# Altium schematic symbol library Velotour_2022.SCHLIB: 34 symbols
Pins are listed as number, name and electrical type; pins without a type are passive.

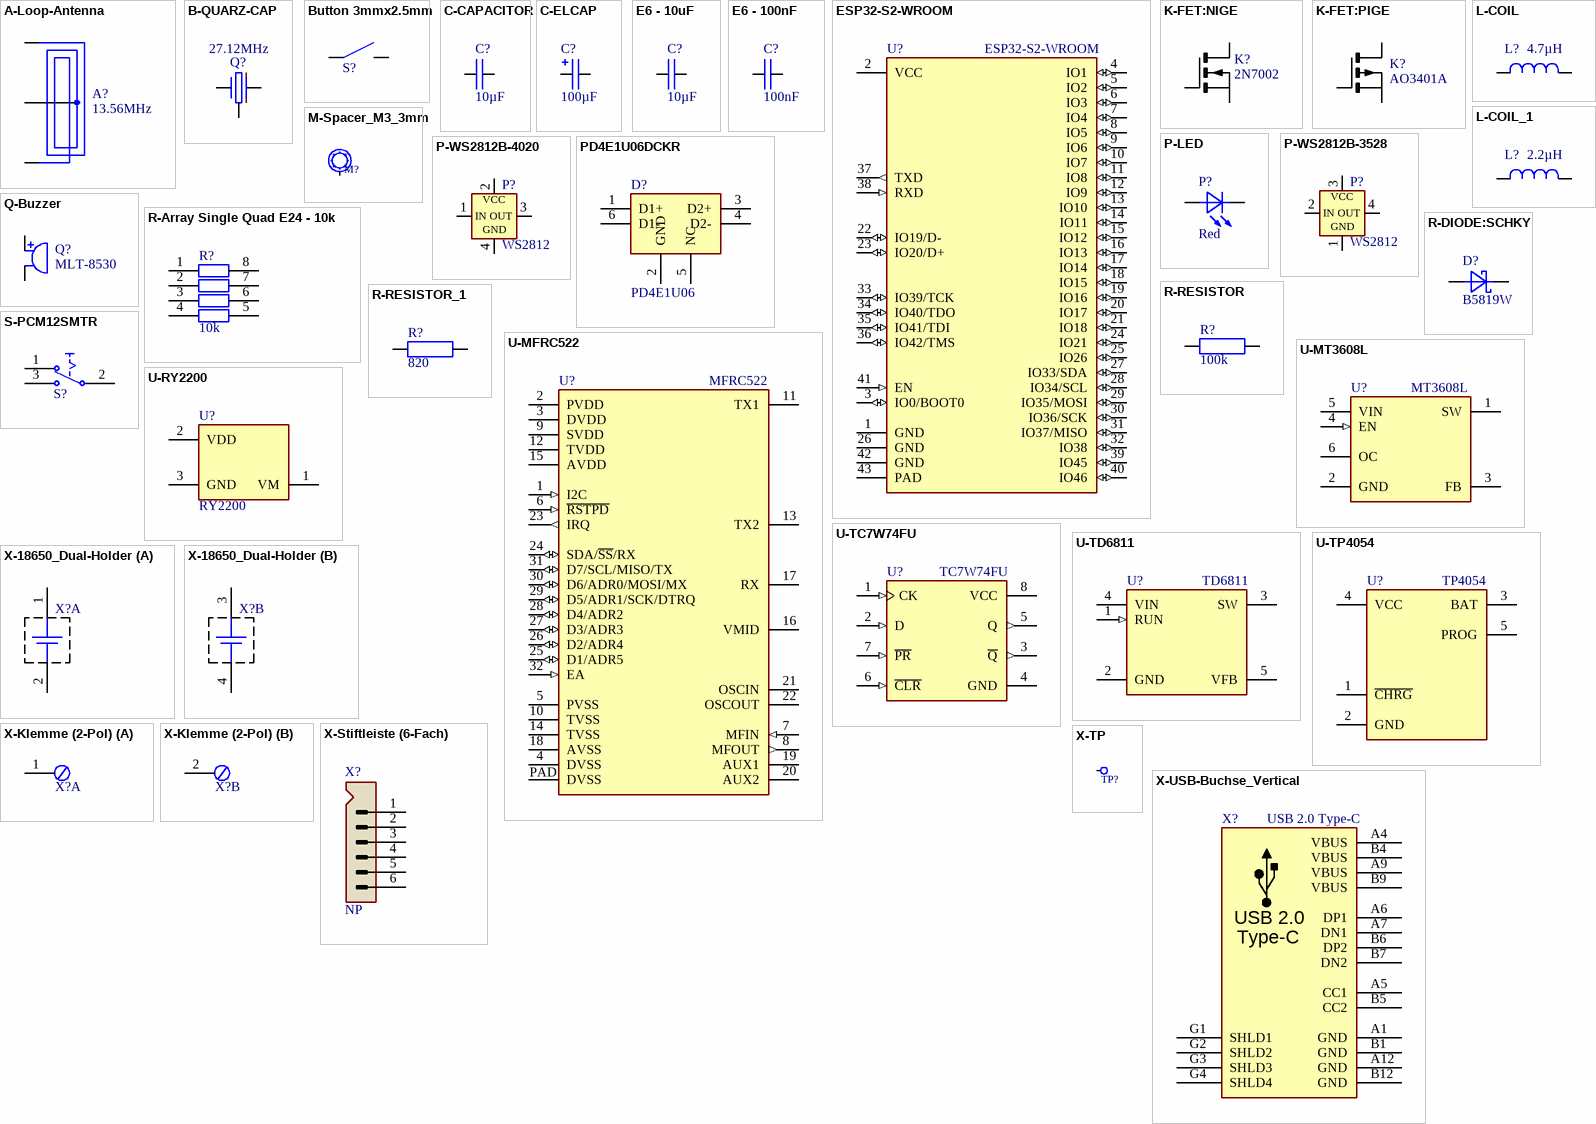
[diagram p0: symbols A-Loop-Antenna to X-USB-Buchse_Vertical]

## A-Loop-Antenna
designator A?, comment 13.56MHz
PCB Loop-Antenna; Component Description: PCB Loop-Antenna; Component Value: 13.56MHz; Unit Price: 0.00
footprint SMD Loop-Antenna 13.56MHz
pins: 1 A, 2 B, 3 M

## B-QUARZ-CAP
designator Q?, comment 27.12MHz
Component Description: Crystal; Digikey: 50-ECS-271.2-18-33-JGN-TR3CT-ND; Farnell: 3649643; Mouser: 520-271.2-1833JGNTR3; ComponentLink1Description: Datasheet; ComponentLink1URL: https://datasheet.lcsc.com/lcsc/2103291134_Yangxing-Tech-X32252712MMB4SI_C29975.pdf; Component Value: 27.12Mhz; JLC-Parts: C29975; Unit Price: 0.08
footprint SMD Crystal 3.2X2.5X0.8 (SMD_LED_RED)
pins: 1, 2, 3
2 alternate drawings of the same symbol

## Button 3mmx2.5mm
designator S?, comment SMD-Button  (value not drawn)
Button SPST; Component Value: TS-1187A-B-A-B; Component Description: Tactile Switch; Digikey: CKN12221-1-ND; ComponentLink1Description: Datasheet; ComponentLink1URL: https://datasheet.lcsc.com/lcsc/2002271431_XKB-Connectivity-TS-1187A-B-A-B_C318884.pdf; Farnell: 3780596; JLC-Parts: C318884; Mouser: 611-PTS526SK15SMR2L; Unit Price: 0.02
footprint SMD Button 5.2x5.2
pins: 1, 2

## C-CAPACITOR
designator C?, comment 10µF
CAP-MK; Component Description: Multilayer Ceramic Capacitors; Component Value: 10µF 50V; Digikey: 445-7886-1-ND; Farnell: 2211092; Mouser: 810-CGA5L3X5R1H106K; JLC-Parts: C13585; Unit Price: 0.27
footprint SMD Keramikkondensator 1206
pins: 1, 2
1 alternate drawing of the same symbol

## C-ELCAP
designator C?, comment 100µF
CAP-Elko; Component Description: Tantalum Capacitor; Component Value: 100µF 6.3V; Digikey: 478-1677-1-ND; Farnell: 1135048; Mouser: 581-TAJB107K006R; JLC-Parts: C16133; Unit Price: 0.08
footprint SMD Tantalkondensator 1210 +
pins: M -, P +
2 alternate drawings of the same symbol

## E6 - 10uF
designator C?, comment 10µF
SMD Ceramic Capacitor E6; Component Value: 10µF 10V; Component Description: Multilayer Ceramic Capacitors MLCC; ComponentLink1Description: Datasheet; ComponentLink1URL: https://datasheet.lcsc.com/lcsc/1810191219_Samsung-Electro-Mechanics-CL10A106KP8NNNC_C19702.pdf; Digikey: 587-3258-1-ND; Farnell: 2113070; JLC-Parts: C19702; Mouser: 963-LMK107BBJ106MALT; Unit Price: 0.01
footprint SMD Keramikkondensator 1206
pins: 1, 2
1 alternate drawing of the same symbol

## E6 - 100nF
designator C?, comment 100nF
SMD Ceramic Capacitor E6; Component Value: 100nF 50V; Component Description: Multilayer Ceramic Capacitors MLCC; ComponentLink1Description: Datasheet; ComponentLink1URL: https://datasheet.lcsc.com/lcsc/1809301912_YAGEO-CC0603KRX7R9BB104_C14663.pdf; Digikey: 445-6899-1-ND; Farnell: 2210822; JLC-Parts: C14663; Mouser: 810-CGA2B3X7R1H104K; Unit Price: 0.01
footprint SMD Keramikkondensator 0603
pins: 1, 2
1 alternate drawing of the same symbol

## ESP32-S2-WROOM
designator U?
WiFi 802.11b/g/n Transceiver Module 2.4GHz Antenna, I-PEX Surface Mount; Component Description: Xtensa single-core 32-bit LX7 MCU; ComponentLink1Description: Datasheet; ComponentLink1URL: https://www.espressif.com/sites/default/files/documentation/esp32-s2-wroom_esp32-s2-wroom-i_datasheet_en.pdf; Digikey: 1965-ESP32-S2-WROOMTR-ND; Component Value: ESP32-S2-WROOM; JLC-Parts: C967026; Mouser: 356-ESP32S2WRMI320UH; Unit Price: 2.54
footprint SMD ESP32-S2-WROOM
pins: 1 GND, 2 VCC, 3 IO0/BOOT0 (io), 4 IO1 (io), 5 IO2 (io), 6 IO3 (io), 7 IO4 (io), 8 IO5 (io), 9 IO6 (io), 10 IO7 (io), 11 IO8 (io), 12 IO9 (io), 13 IO10 (io), 14 IO11 (io), 15 IO12 (io), 16 IO13 (io), 17 IO14 (io), 18 IO15 (io), 19 IO16 (io), 20 IO17 (io), 21 IO18 (io), 22 IO19/D- (io), 23 IO20/D+ (io), 24 IO21 (io), 25 IO26 (io), 26 GND, 27 IO33/SDA (io), 28 IO34/SCL (io), 29 IO35/MOSI (io), 30 IO36/SCK (io), 31 IO37/MISO (io), 32 IO38 (io), 33 IO39/TCK (io), 34 IO40/TDO (io), 35 IO41/TDI (io), 36 IO42/TMS (io), 37 TXD (out), 38 RXD (in), 39 IO45 (io), 40 IO46 (io), 41 EN (in), 42 GND, 43 PAD

## K-FET:NIGE
designator K?, comment 2N7002
MOSFET N-Channel; Digikey: 2N7002NCT-ND; Farnell: 1713823; Mouser: 512-2N7002; ComponentLink1Description: Datasheet; ComponentLink1URL: https://datasheet.lcsc.com/lcsc/1810151612_Jiangsu-Changjing-Electronics-Technology-Co---Ltd--2N7002_C8545.pdf; Component Description: MOSFET N-Channel; Component Value: 2N7002; JLC-Parts: C8545; Unit Price: 0.02
footprint SMD MOSFET SOT-23
pins: D, G, S
2 alternate drawings of the same symbol

## K-FET:PIGE
designator K?, comment AO3401A
MOSFET P-Channel; Digikey: 785-1001-1-ND; Component Description: MOSFET P-Channel; ComponentLink1Description: Datasheet; ComponentLink1URL: https://datasheet.lcsc.com/lcsc/1810171817_Alpha---Omega-Semicon-AO3401A_C15127.pdf; Component Value: AO3401A; JLC-Parts: C15127; Unit Price: 0.14
footprint SMD MOSFET SOT-23
pins: D, G, S
2 alternate drawings of the same symbol

## L-COIL
designator L?, comment 4.7µH
Shielded Power Inductor; Component Description: Molded Power Inductor; Component Value: LQH32PN4R7NN0L (4.7µH, 1.0A); Farnell: 2470296; Mouser: 81-LQH32PN4R7NN0L; Digikey: 490-5338-1-ND; JLC-Parts: C98021; Unit Price: 0.12
footprint SMD Inductor 3.2x2.5x1.7
pins: 1, 2
2 alternate drawings of the same symbol

## L-COIL_1
designator L?, comment 2.2µH
Multilayer Chip Inductor; Farnell: 2871431; Mouser: 81-DFE201210U-2R2MP2; Digikey: 490-16592-1-ND; JLC-Parts: C1043; Component Description: Multilayer Chip Inductor; Component Value: 2.2µH; Unit Price: 0.01
footprint SMD Inductor 0805
pins: 1, 2
2 alternate drawings of the same symbol

## M-Spacer_M3_3mm
designator M?, comment SMTSO-M3-3ET  (value not drawn)  (no BOM)
Solderable Standoff Nut; Component Value: M3 3mm; Mouser: 153-SMTSO-M3-3ET; Component Description: Solderable Standoff Nut; Unit Price: 0.05; JLC-Parts: C2915308; ComponentLink1Description: Datasheet; ComponentLink1URL: https://datasheet.lcsc.com/lcsc/2112061830_Sinhoo-SMTSO3030CTJ_C2915308.pdf
footprint SMD Solder-Nut (M3 3mm)
pins: 1

## P-LED
designator P?, comment Red
LED (als Lampe E / alt H); Component Description: Low Power LED; Component Value: Red (5mA, 2.0V); Digikey: 350-2029-1-ND; Farnell: 1465988; Mouser: 645-598-8010-107F; ComponentLink1Description: Datasheet; ComponentLink1URL: https://datasheet.lcsc.com/szlcsc/Hubei-KENTO-Elec-KT-0603R_C2286.pdf; JLC-Parts: C2286; Unit Price: 0.34
footprint SMD LED 0603 (SMD_LED_RED)
pins: A, K

## P-WS2812B-3528
designator P?, comment WS2812
Smart RGB-LED; aliExpress: 1005003999865721; Component Value: XL-3528RGBW-WS2812B; JLC-Parts: C2890364; ComponentLink1Description: Datasheet; ComponentLink1URL: https://datasheet.lcsc.com/lcsc/2108271830_XINGLIGHT-XL-3528RGBW-WS2812B_C2890364.pdf; Component Description: Smart RGB-LED; Unit Price: 0.06
footprint SMD LED WS2812B-3528 (SMD_LED_RED)
pins: 1 GND (power), 2 IN (power), 3 VCC (power), 4 OUT (power)

## P-WS2812B-4020
designator P?, comment WS2812
Smart RGB-LED; aliExpress: 33031289356; Component Value: WS2812B-4020; JLC-Parts: C965557; ComponentLink1Description: Datasheet; ComponentLink1URL: https://datasheet.lcsc.com/lcsc/2012110135_Worldsemi-WS2812B-4020_C965557.pdf; Component Description: Smart RGB-LED; Unit Price: 0.12
footprint SMD LED WS2812B-4020 (SMD_LED_RED)
pins: 1 IN (power), 2 VCC (power), 3 OUT (power), 4 GND (power)

## PD4E1U06DCKR
designator D?, comment PD4E1U06
Unidirectional 3A (8/20us) 15V (Typ) 6.5V 5.5V (Max) SOT-363 ESD Protection Devices ROHS; Component Description: ESD Suppressor; ComponentLink1Description: Datasheet; ComponentLink1URL: https://datasheet.lcsc.com/lcsc/1810172210_Texas-Instruments-TPD4E1U06DCKR_C194628.pdf; Component Value: PD4E1U06; Digikey: 296-39347-1-ND; Farnell: 3116516; JLC-Parts: C194628; Mouser: 595-TPD4E1U06DCKR; Unit Price: 0.12
footprint SMD IC SOT-363 (SC-70-6)
pins: 1 D1+, 2 GND, 3 D2+, 4 D2-, 5 NC, 6 D1-

## Q-Buzzer
designator Q?, comment MLT-8530
Electromagnetic Buzzer; Digikey: 458-1052-ND; Farnell: 1801084; Mouser: 539-AST200Q; JLC-Parts: C94599; ComponentLink1Description: Datasheet; ComponentLink1URL: https://datasheet.lcsc.com/lcsc/1811151451_Jiangsu-Huaneng-Elec-MLT-8530_C94599.pdf; Component Description: Electromagnetic Buzzer; Component Value: MLT-8530; Unit Price: 0.27
footprint SMD Buzzer (MLT-8530) (SMD_LED_RED)
pins: 1 P (power), 2 M (power)

## R-Array Single Quad E24 - 10k
designator R?, comment 10k
Isolated Resistor Array; Component Value: 10k (4x, 50V, 62.5mW, 5%); ComponentLink1Description: Datasheet; ComponentLink1URL: https://datasheet.lcsc.com/lcsc/1810191515_UNI-ROYAL-Uniroyal-Elec-4D03WGJ0103T5E_C29718.pdf; Digikey: Y4103CT-ND; Farnell: 2060167; JLC-Parts: C29718; Mouser: 667-EXB-V8V103JV; Unit Price: 0.01; Component Description: Isolated Resistor Array
footprint SMD Widerstand Array 4-Fach 0603
pins: 1, 2, 3, 4, 5, 6, 7, 8

## R-DIODE:SCHKY
designator D?, comment B5819W
S-DIODE; Component Description: Low Voltage Schottky-Diode; Mouser: 833-B5819W-TP; Farnell: 2306459; Digikey: B5819W-TPMSCT-ND; JLC-Parts: C8598; Component Value: B5819W; Unit Price: 0.03
footprint SMD Diode SOD-123 (SM LED; 2 Flat Leads)
pins: A, K

## R-RESISTOR
designator R?, comment 100k
RES (E=Heizwiderstand B=Messwandler); Component Description: Thick Film Chip Resistor; Component Value: 100k (75V, 100mW, 1%); Digikey: P100KHCT-ND; Farnell: 2303232; Mouser: 667-ERJ-3EKF1003V; JLC-Parts: C25803; Unit Price: 0.01
footprint SMD Widerstand 0603
pins: 1, 2
1 alternate drawing of the same symbol

## R-RESISTOR_1
designator R?, comment 820
SMD-Widerstand 1/4W; Component Description: Dickschicht Chipwiderstand; Component Value: 820 (75V, 100mW, 1%); Digikey: P820HCT-ND; Farnell: 2303136; Mouser: 667-ERJ-3EKF8200V; JLC-Parts: C23253; Unit Price: 0.01
footprint SMD Widerstand 0603
pins: 1, 2
1 alternate drawing of the same symbol

## S-PCM12SMTR
designator S?, comment SS075Q102F035V2A  (value not drawn)
Micro Detector Switch; aliExpress: 32939882024; Component Value: SS075Q102F035V2A (Right Angled); Digikey: EG4929-ND; Mouser: 612-SS075Q102F035V2A; Farnell: 2844089; ComponentLink1Description: Datasheet; Component Description: Micro Detector Switch; Unit Price: 0.18
footprint THT Micro Switch (SS075Q102F035V2A)
pins: 1 NC1, 2 COMMON1, 3 NO1

## U-MFRC522
designator U?, comment MFRC522
Standard performance MIFARE and NTAG frontend; ComponentLink1Description: Datasheet; ComponentLink1URL: https://media.digikey.com/pdf/Data%20Sheets/NXP%20PDFs/MFRC522.pdf; Digikey: 568-8603-ND; Component Value: MFRC522; Farnell: 1902838; JLC-Parts: C2760772; Mouser: 771-MFRC52202HN1151; Unit Price: 0.88; Component Description: Standard performance MIFARE and NTAG frontend
footprint SMD IC QFN-32 (QFN, 32-Leads, Body 5x5mm, Pitch 0.5mm, IPC Medium Density)
pins: 1 I2C (in), 2 PVDD (power), 3 DVDD (power), 4 DVSS (power), 5 PVSS (power), 6 ~{RSTPD} (in), 7 MFIN (in), 8 MFOUT (out), 9 SVDD (power), 10 TVSS (power), 11 TX1, 12 TVDD (power), 13 TX2, 14 TVSS (power), 15 AVDD (power), 16 VMID, 17 RX, 18 AVSS (power), 19 AUX1, 20 AUX2, 21 OSCIN, 22 OSCOUT, 23 IRQ (out), 24 SDA/~{SS}/RX (io), 25 D1/ADR5 (io), 26 D2/ADR4 (io), 27 D3/ADR3 (io), 28 D4/ADR2 (io), 29 D5/ADR1/SCK/DTRQ (io), 30 D6/ADR0/MOSI/MX (io), 31 D7/SCL/MISO/TX (io), 32 EA (in), PAD DVSS

## U-MT3608L
designator U?, comment MT3608L
1.2MHz 2.5A Current Mode Step-Up Converter; ComponentLink1Description: Datasheet; ComponentLink1URL: https://datasheet.lcsc.com/lcsc/2201121530_XI-AN-Aerosemi-Tech-MT3608L_C2932326.pdf; Component Value: MT3608L; JLC-Parts: C2932326; Unit Price: 0.09; Component Description: 1.2MHz 2.5A Current Mode Step-Up Converter
footprint SMD IC SOT-23-6 (SOT-223/SC-73; 4 Leads; Body 6.7 x 7.3 mm, inc. leads (LxW max))
pins: 1 SW, 2 GND (power), 3 FB, 4 EN (in), 5 VIN (power), 6 OC

## U-RY2200
designator U?, comment RY2200
One Cell Li-ion and Li-poly Battery Protection IC; ComponentLink1Description: Datasheet; ComponentLink1URL: https://datasheet.lcsc.com/lcsc/2108251630_RYCHIP-Semiconductor-Inc--RY2200_C2888102.pdf; Component Value: RY2200; JLC-Parts: C2888102; Unit Price: 0.05; Component Description: One Cell Li-ion and Li-poly Battery Protection IC
footprint SMD IC SOT-23-3
pins: 1 VM (power), 2 VDD (power), 3 GND (power)

## U-TC7W74FU
designator U?, comment TC7W74FU
Low-Power D-Flip-Flop with Preset & Clear; ComponentLink1Description: Datasheet; ComponentLink1URL: https://datasheet.lcsc.com/lcsc/1811081942_TOSHIBA-TC7W74FU-LF_C128631.pdf; Digikey: TC7W74FULFCT-ND; Component Value: TC7W74FU; Farnell: 3872351; JLC-Parts: C128631; Unit Price: 0.52; Component Description: Low-Power D-Flip-Flop with Preset & Clear
footprint SMD IC TSSOP-8 (Shrink Small Outline; 16 Leads; Body Width 4.4 mm; Pitch 0.65 mm)
pins: 1 CK (in), 2 D (in), 3 ~{Q} (out), 4 GND (power), 5 Q (out), 6 ~{CLR} (in), 7 ~{PR} (in), 8 VCC (power)

## U-TD6811
designator U?, comment TD6811
1.5MHz 1.2A Synchronous Step-Down Converter; ComponentLink1Description: Datasheet; ComponentLink1URL: https://datasheet.lcsc.com/lcsc/1811061612_Techcode-Semicon-TD6811_C189486.pdf; Component Value: TD6811; JLC-Parts: C189486; Unit Price: 0.14; Component Description: 1.5MHz 1.2A Synchronous Step-Down Converter
footprint SMD IC SOT-23-5 (SOT-223/SC-73; 4 Leads; Body 6.7 x 7.3 mm, inc. leads (LxW max))
pins: 1 RUN (in), 2 GND (power), 3 SW, 4 VIN (power), 5 VFB

## U-TP4054
designator U?, comment TP4054
Standalone Linear Li-Ion Battery Charger; ComponentLink1Description: Datasheet; ComponentLink1URL: http://images.100y.com.tw/pdf_file/38-TP-TP4054x.pdf; Component Value: TP4054; JLC-Parts: C32574; Unit Price: 0.14; Component Description: Standalone Linear Li-Ion Battery Charger
footprint SMD IC SOT-23-5 (SOT-223/SC-73; 4 Leads; Body 6.7 x 7.3 mm, inc. leads (LxW max))
pins: 1 ~{CHRG} (oc), 2 GND (power), 3 BAT, 4 VCC (power), 5 PROG

## X-18650_Dual-Holder
designator X?, comment 18650 Dual Battery Holder  (value not drawn)
Component Value: 1049P; AliExpress: 4001152338150; Digikey: 36-1049P-ND; Farnell: 2674339; Mouser: 534-1049P; Unit Price: 0.73; ComponentLink1Description: Datasheet; ComponentLink1URL: https://www.keyelco.com/userAssets/file/M65p27.pdf; Component Description: 18650 Dual Battery Holder
footprint SMD Battery-Holder (1048P)
part A pins: 1 B1P, 2 B1N
part B pins: 3 B2P, 4 B2N

## X-Klemme (2-Pol)
designator X?  (value not drawn)
Component Description: Schraubklemme; Component Value: WJ500V-5.08-2P (2-Pol, 250V, 8A, 5.08mm); ComponentLink1Description: Datasheet; ComponentLink1URL: https://datasheet.lcsc.com/lcsc/1912251636_Ningbo-Kangnex-Elec-WJ500V-5-08-2P_C8465.pdf; JLC-Parts: C8465; Unit Price: 0.08
footprint THT Schraubklemme 2-Pol (WJ500V-5.08-2P)
part A pins: 1
part B pins: 2

## X-Stiftleiste (6-Fach)
designator X?, comment NP
Component Description: Pin Header
footprint THT Pin-Header 1x6 (NP) (Capacitor, Electrolytic, Radial; Body 5 x 5 mm (Dia.xH typ); Pin Spacing 2 mm (typ))
pins: 1, 2, 3, 4, 5, 6
1 alternate drawing of the same symbol

## X-TP
designator TP?  (value not drawn)  (no BOM)
Testpunkt; Component Value: Ø 0.8mm; Component Description: Testpunkt; Unit Price: 0.00
footprint SMD Testpunkt Ø1mm
pins: 1

## X-USB-Buchse_Vertical
designator X?, comment USB 2.0 Type-C
Type-C; aliExpress: 1005003021508194; Component Description: USB Connector Type-C Vertical; Component Value: KH-TYPE-C-L10-14P; ComponentLink1Description: Datasheet; ComponentLink1URL: https://datasheet.lcsc.com/lcsc/2103161911_Shenzhen-Kinghelm-Elec-KH-TYPE-C-L10-14P_C2761226.pdf; JLC-Parts: C2761226; Unit Price: 0.27
footprint THT USB-C Socket (KH-TYPE-C-L10-14P)
pins: A1 GND, A4 VBUS, A5 CC1, A6 DP1, A7 DN1, A9 VBUS, A12 GND, B1 GND, B4 VBUS, B5 CC2, B6 DP2, B7 DN2, B9 VBUS, B12 GND, G1 SHLD1, G2 SHLD2, G3 SHLD3, G4 SHLD4
text: USB 2.0